# EAGLE library part TDA7052 (library open1541)
Phillips TDA7052 1 W BTL mono audio amplifier
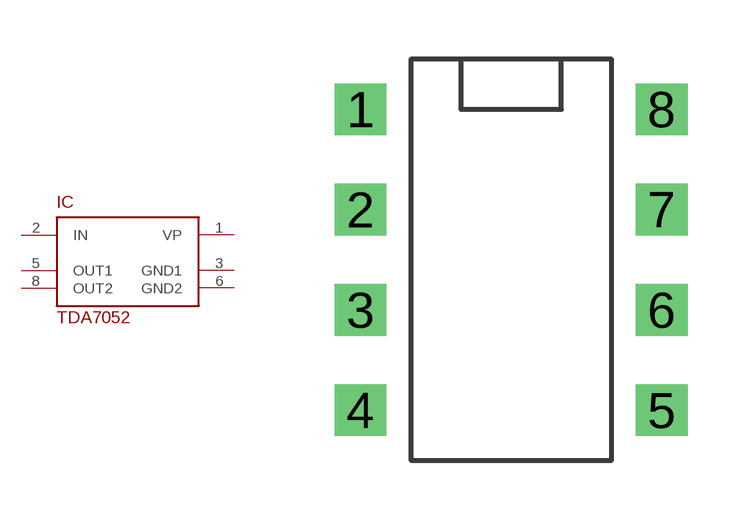
[diagram p0: symbol with the pads of DIL8; footprint DIL8]

Designator prefix IC

## TDA7052DIL8  [DIL8]
1  VP
2  IN
3  GND1
5  OUT1  out
6  GND2
8  OUT2  out

## Footprint DIL8 (pad centres in mm)
DIL8
drill 0.8 square: 1 -3.81,3.81; 2 -3.81,1.27; 3 -3.81,-1.27; 4 -3.81,-3.81; 5 3.81,-3.81; 6 3.81,-1.27; 7 3.81,1.27; 8 3.81,3.81